# Altium schematic symbol library 1932638-3.SchLib: 1 symbol
Pins are listed as number, name and electrical type; pins without a type are passive.

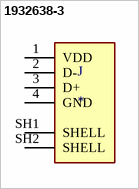
[diagram p0: symbol 1932638-3]

## 1932638-3
designator J
Conn USB 2.0 Type A RCP 4 POS Solder RA SMD 4 Terminal 1 Port T/R; MP: 1932638-3; MF: TE Connectivity; TE_purchase_URL: https://www.te.com/usa-en/product-1932638-3.html?te_bu=Cor&te_type=disp&te_campaign=seda_glo_cor-seda-global-disp-prtnr-fy19-seda-model-bom-cta_sma-317_1&elqCampaignId=32493; Availability: Unavailable; SnapEDA_Link: https://www.snapeda.com/parts/1932638-3/TE%20Connectivity%20AMP%20Connectors/view-part/563450/?ref=snap; Value: *; Package: None; Price: None
footprint TE_1932638-3
pins: 1 VDD, 2 D-, 3 D+, 4 GND, SH1 SHELL, SH2 SHELL